# Altium schematic symbol library Otto Sch Lib.SCHLIB: 41 symbols
Pins are listed as number, name and electrical type; pins without a type are passive.

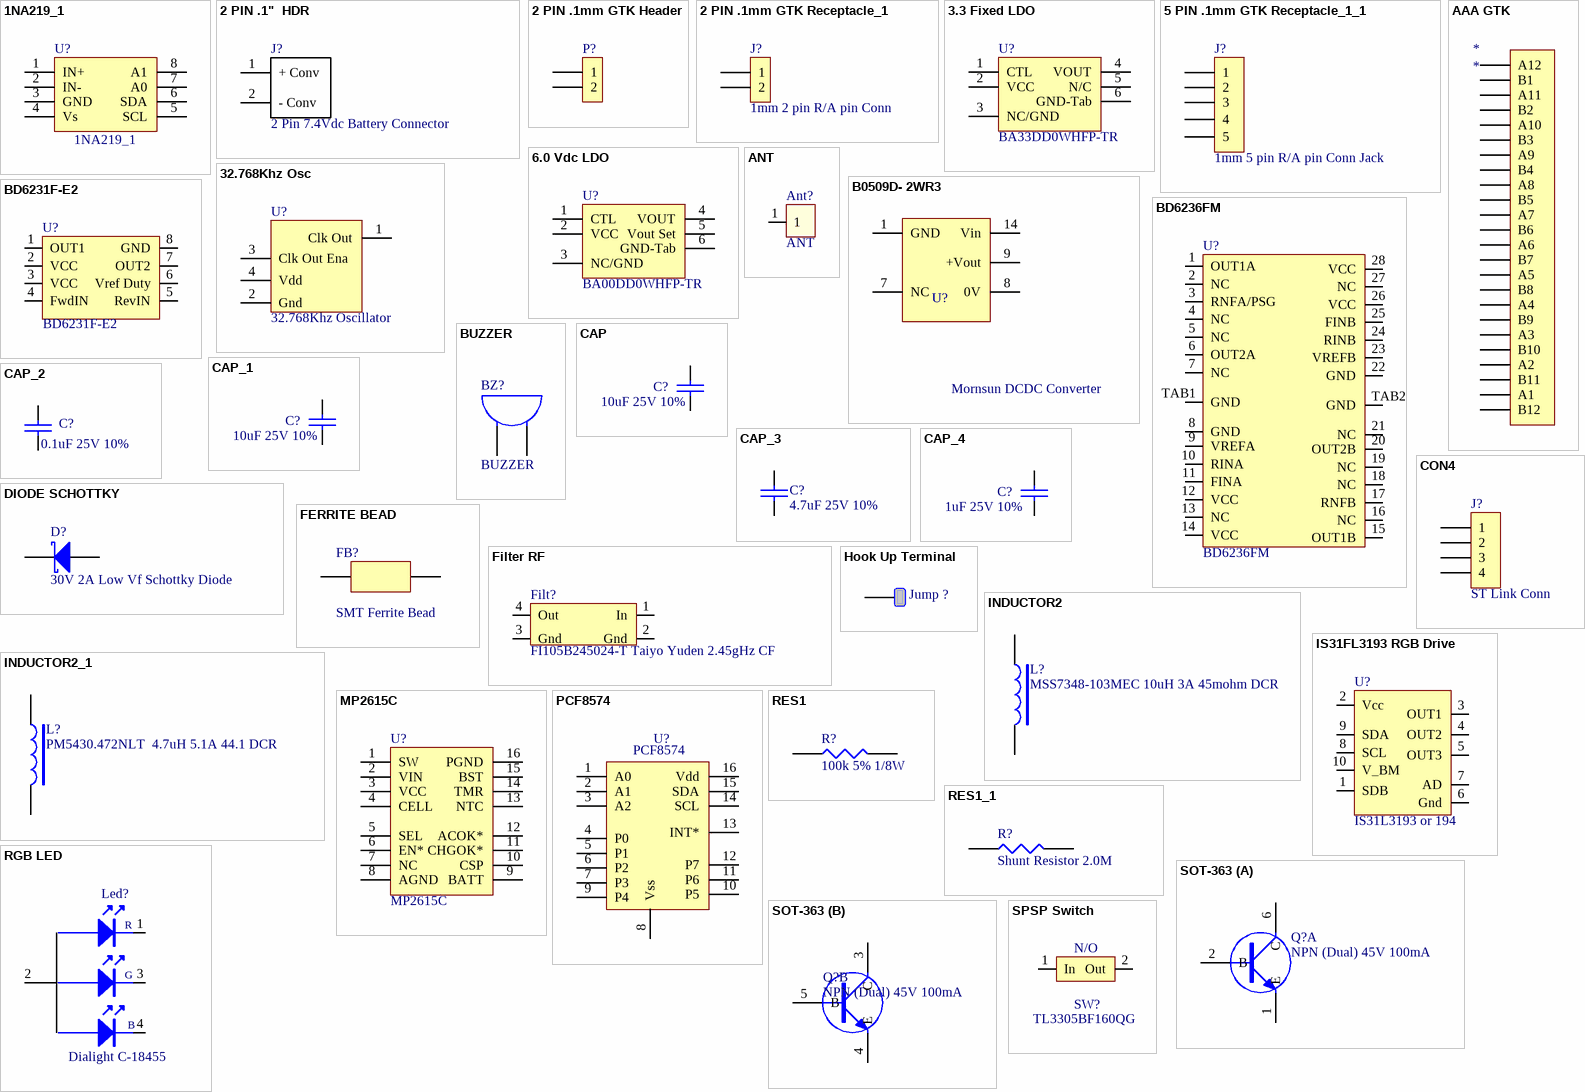
[diagram p0: symbols 1NA219_1 to SPSP Switch]

## 1NA219_1
designator U?
INA219AIDCNR Current Sensor  1.29 sd at mouser
footprint INA219
pins: 1 IN+, 2 IN-, 3 GND, 4 Vs, 5 SCL, 6 SDA, 7 A0, 8 A1

## 2 PIN .1"  HDR
designator J?, comment 2 Pin 7.4Vdc Battery Connector
640457-2  TE Connectivity 2 pin r-a battery conn 8.6cents at Mouser
footprint 0.1 inch center -- 2 pin Batt  RA (Footprint not found)
pins: 1 + Conv, 2 - Conv
2 alternate drawings of the same symbol

## 2 PIN .1mm GTK Header
designator P?, comment 1mm 2 pin R/A pin Conn  (value not drawn)
WTBI-02S-SMH1T-R  2pin R-A 1mm center GTK Header
footprint GTK 2 pin 1mm Header (Footprint not found)
pins: 1, 2

## 2 PIN .1mm GTK Receptacle_1
designator J?, comment 1mm 2 pin R/A pin Conn
WTBI-02S-CF3-R 5 pin R-A 1mm center GTK Receptacle
footprint 1mm Ceneter GTK R-A Receptacle (Footprint not found)
pins: 1, 2

## 3.3 Fixed LDO
designator U?, comment BA33DD0WHFP-TR
BA33DD0WHFP-TR 3.3Vdc LDO Rohm 2.15 usd at mouser
footprint HRP-5 (Footprint not found)
pins: 1 CTL, 2 VCC, 3 NC/GND, 4 VOUT, 5 N/C, 6 GND-Tab

## 5 PIN .1mm GTK Receptacle_1_1
designator J?, comment 1mm 5 pin R/A pin Conn Jack
WTBI-05S-CF3-R 5 pin R-A 1mm center GTK Receptacle
footprint 1mm Ceneter GTK R-A Receptacle (Footprint not found)
pins: 1, 2, 3, 4, 5

## 6.0 Vdc LDO
designator U?, comment BA00DD0WHFP-TR
BA00DD0WHFP-TR 6.0Vdc LDO Rohm  1.24 usd at mouser
footprint HRP-5 (Footprint not found)
pins: 1 CTL, 2 VCC, 3 NC/GND, 4 VOUT, 5 Vout Set, 6 GND-Tab

## 32.768Khz Osc
designator U?, comment 32.768Khz Oscillator
OM-7604-C7  - 32.768Khz Osc 1.51 from Digikey
footprint 4-SMD, No Lead (Footprint not found)
pins: 1 Clk Out, 2 Gnd, 3 Clk Out Ena, 4 Vdd

## AAA GTK
designator *
pins: A1, A2, A3, A4, A5, A6, A7, A8, A9, A10, A11, A12, B1, B2, B3, B4, B5, B6, B7, B8, B9, B10, B11, B12

## ANT
designator Ant?
W3230 Pulse Larsen BLE 2.5Ghz 2.57 at Digikey
footprint Self Adhesive (Footprint not found)
footprint Pulse Larsen - duplicate (BLE Ant)
pins: 1

## B0509D- 2WR3
designator U?, comment Mornsun DCDC Converter
B0509D- 2WR3  DC to DC Boost 5 to 9Vdc 2.80 at Digikey
footprint B0509D-2WR3 (Mornsun DC-DC Converter)
pins: 1 GND, 7 NC, 8 0V, 9 +Vout, 14 Vin

## BD6231F-E2
designator U?
BD6231F-E2 Rohm DC Brush Mtr Driver 1.52 at Mouser
footprint SOP-8
pins: 1 OUT1, 2 VCC, 3 VCC, 4 FwdIN, 5 RevIN, 6 Vref Duty, 7 OUT2, 8 GND

## BD6236FM
designator U?
BD6236FM-E2 DC Brush Mtr Driver 2 CH Rohm 4.34 at Digikey
footprint HSOP-M28 (Footprint not found)
pins: 1 OUT1A, 2 NC, 3 RNFA/PSG, 4 NC, 5 NC, 6 OUT2A, 7 NC, 8 GND, 9 VREFA, 10 RINA, 11 FINA, 12 VCC, 13 NC, 14 VCC, 15 OUT1B, 16 NC, 17 RNFB, 18 NC, 19 NC, 20 OUT2B, 21 NC, 22 GND, 23 VREFB, 24 RINB, 25 FINB, 26 VCC, 27 NC, 28 VCC, TAB1 GND, TAB2 GND

## BUZZER
designator BZ?
KLJ-5030 (Keliking) 4kHz Buzzer 71 cents from LcSc.com
footprint BUZZER-smd
pins: 1 A, 2 B

## CAP
designator C?, comment 10uF 25V 10%
CC1210KFX7R8BB106 Yageo 10uF 25V 10% 23 cents at Mouser
footprint 1210 (Footprint not found)
pins: 1, 2
2 alternate drawings of the same symbol

## CAP_1
designator C?, comment 10uF 25V 10%
CC1210KFX7R8BB106 Yageo 10uF 25V 10% 23 cents at Mouser
footprint 0805
pins: 1, 2
2 alternate drawings of the same symbol

## CAP_2
designator C?, comment 0.1uF 25V 10%
TMK105BJ104KV8F Taiyo Uden 0.1uF 25V 10% 2.3 cents at Mouser
footprint 0402 (Footprint not found)
pins: 1, 2
2 alternate drawings of the same symbol

## CAP_3
designator C?, comment 4.7uF 25V 10%
GRM188R61E475KE11D Murata 4.7uF 25V 10% 7.9 centsat Mouser
footprint 0603 (Footprint not found)
pins: 1, 2
2 alternate drawings of the same symbol

## CAP_4
designator C?, comment 1uF 25V 10%
CC0603KRX5R8BB105 1uf 25V 10% Yageo 3 cents at Mouser
footprint 0603 (Footprint not found)
footprint CAPC1608X90
pins: 1, 2
2 alternate drawings of the same symbol

## CON4
designator J?, comment ST Link Conn
Standard 0.1in center terminal strip
footprint CONN-4
pins: 1, 2, 3, 4

## DIODE SCHOTTKY
designator D?, comment 30V 2A Low Vf Schottky Diode
MBR230LSFT1G On Semi 2A 30V Diode SOD 123 23 cents at Newark
footprint SOD 123 (On Semi 2A Low VF)
pins: 1, 2
2 alternate drawings of the same symbol

## FERRITE BEAD
designator FB?, comment Max DCR 0.05ohm  3A  (value not drawn)
2508051217Z3 (Fair-Rite) 4.8 cents at Mouser; Text Field1: SMT Ferrite Bead
footprint 0805 (Footprint not found)
pins: 1, 2

## Filter RF
designator Filt?, comment FI105B245024-T Taiyo Yuden 2.45gHz CF
FI105B245024-T Taiyo Uuden RF 2.45gHz  Filter 4 pin smd 37 cents at Digikey
footprint Filter (Footprint not found)
pins: 1 In, 2 Gnd, 3 Gnd, 4 Out

## Hook Up Terminal
designator Jump ?  (value not drawn)
footprint Pad
pins: 1

## INDUCTOR2
designator L?, comment MSS7348-103MEC 10uH 3A 45mohm DCR
MSS7348-103MEC Coilcraft 10uH 3A 45mohm DCR 80cents at Mouser
footprint 7x7mm (Footprint not found)
pins: 1, 2
2 alternate drawings of the same symbol

## INDUCTOR2_1
designator L?, comment PM5430.472NLT  4.7uH 5.1A 44.1 DCR
PM5430.472NLT  4.7uH 5.1A 44.1 DCR Ohms 20% 80 Cents at Digikey
footprint 4x4mm (Footprint not found)
pins: 1, 2
2 alternate drawings of the same symbol

## IS31FL3193 RGB Drive
designator U?, comment IS31L3193 or 194
IS31FL3194-CLS2-TR RGB Driver 62 cents at Mouser also look at IS31FL3193 part
footprint WCSP-8 (Footprint not found)
pins: 1 SDB, 2 Vcc, 3 OUT1, 4 OUT2, 5 OUT3, 6 Gnd, 7 AD, 8 SCL, 9 SDA, 10 V_BM

## MP2615C
designator U?
MP2615C Batt Charger IC usd at mouser
footprint 16-PowerVFQFN (Footprint not found)
pins: 1 SW, 2 VIN, 3 VCC, 4 CELL, 5 SEL, 6 EN*, 7 NC, 8 AGND, 9 BATT, 10 CSP, 11 CHGOK*, 12 ACOK*, 13 NTC, 14 TMR, 15 BST, 16 PGND

## PCF8574
designator U?
PCF8574 I2C Expander  fix   usd at mouser
footprint SOIC-16 (Footprint not found)
pins: 1 A0, 2 A1, 3 A2, 4 P0, 5 P1, 6 P2, 7 P3, 8 Vss, 9 P4, 10 P5, 11 P6, 12 P7, 13 INT*, 14 SCL, 15 SDA, 16 Vdd

## RES1
designator R?, comment 100k 5% 1/8W
need mew pn --- 0805FR-07150RL (Yageo)
footprint 0805
pins: 1, 2
2 alternate drawings of the same symbol

## RES1_1
designator R?, comment Shunt Resistor 2.0M
PSR100KTQFJ2L00 64cents at Mouser
footprint 2512
pins: 1, 2
2 alternate drawings of the same symbol

## RGB LED
designator Led?, comment Dialight C-18455
Dialight C-18455 31cents from Mouser or 28cents at Digikey
footprint 5MM (Footprint not found)
pins: 1 R, 2, 3 G, 4 G
text: B

## SOT-363
designator Q?, comment NPN (Dual) 45V 100mA
BC847BS,115 Nexperia Dual NPN 8.9cents at Mouser
footprint SOT-23
footprint TSSOP-6 (Footprint not found)
part A pins: 1 E, 2 B, 6 C
part B pins: 3 C, 4 E, 5 B

## SPSP Switch
designator SW?, comment TL3305BF160QG
TL3305BF160QG SPST E-Switch Pushbutton Normally Open Tactile 1.5cents at Mouser
footprint Switch (Footprint not found)
pins: 1 In, 2 Out
text: N/O

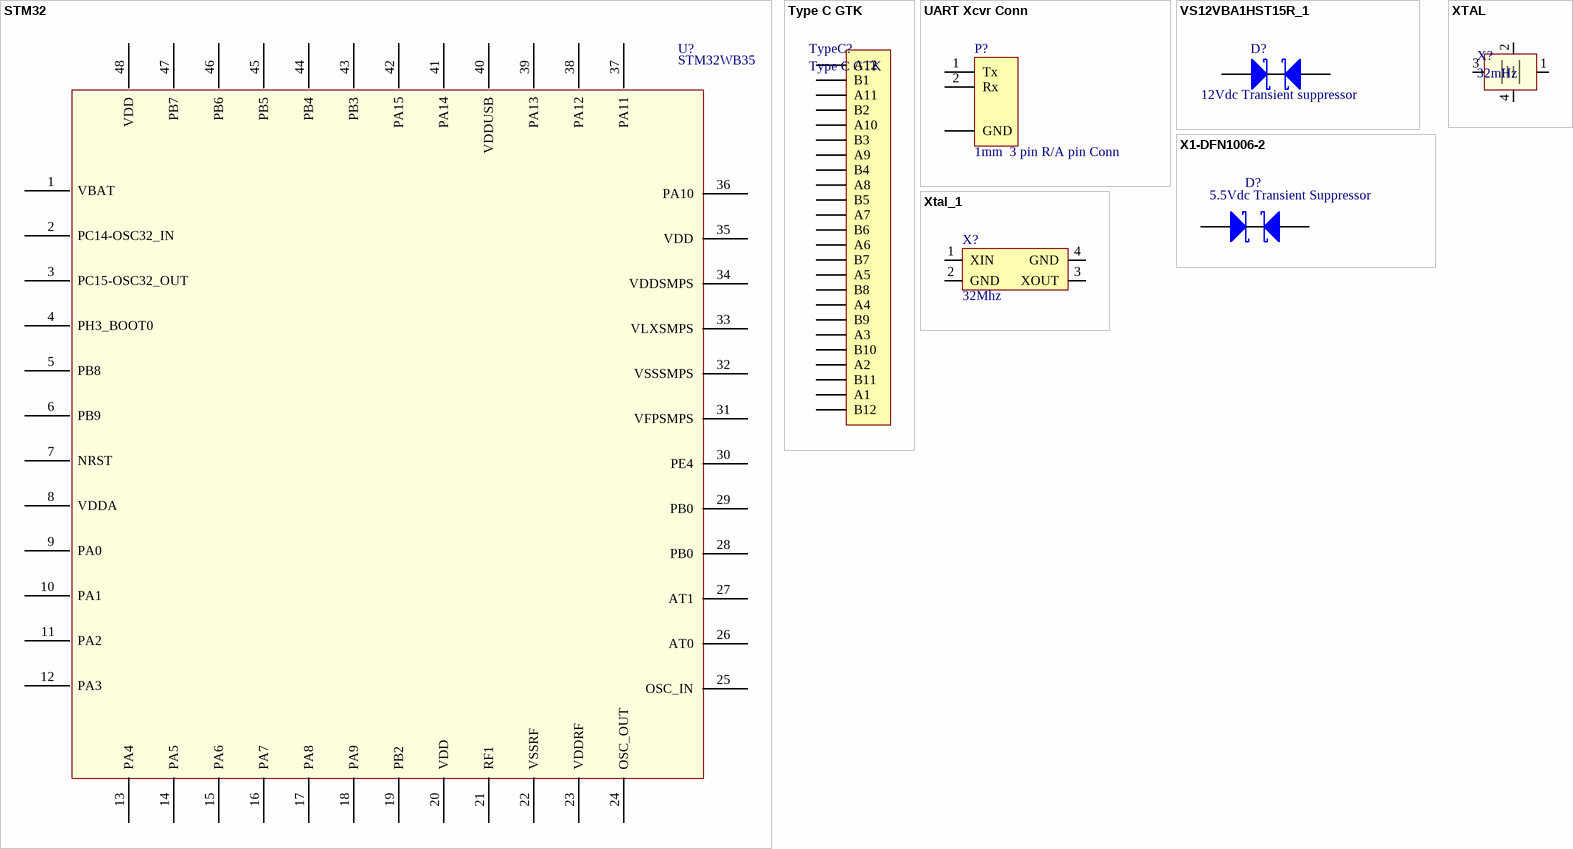
[diagram p1: symbols STM32 to Xtal_1]

## STM32
designator U?, comment STM32WB35
STM32WB35CEU6ATR
footprint 48-UFQFPN (7x7) (Footprint not found)
pins: 1 VBAT, 2 PC14-OSC32_IN, 3 PC15-OSC32_OUT, 4 PH3_BOOT0, 5 PB8, 6 PB9, 7 NRST, 8 VDDA, 9 PA0, 10 PA1, 11 PA2, 12 PA3, 13 PA4, 14 PA5, 15 PA6, 16 PA7, 17 PA8, 18 PA9, 19 PB2, 20 VDD, 21 RF1, 22 VSSRF, 23 VDDRF, 24 OSC_OUT, 25 OSC_IN, 26 AT0, 27 AT1, 28 PB0, 29 PB0, 30 PE4, 31 VFPSMPS, 32 VSSSMPS, 33 VLXSMPS, 34 VDDSMPS, 35 VDD, 36 PA10, 37 PA11, 38 PA12, 39 PA13, 40 VDDUSB, 41 PA14, 42 PA15, 43 PB3, 44 PB4, 45 PB5, 46 PB6, 47 PB7, 48 VDD

## Type C GTK
designator TypeC?
footprint C-Conn (GTK Type C Connector)
pins: A1, A2, A3, A4, A5, A6, A7, A8, A9, A10, A11, A12, B1, B2, B3, B4, B5, B6, B7, B8, B9, B10, B11, B12

## UART Xcvr Conn
designator P?, comment 1mm  3 pin R/A pin Conn
GTK 3 pin R-A 1mm center GTK Header
footprint GTK 3pin 1mm Header (Footprint not found)
pins: 1 Tx, 2 Rx, 2 GND

## VS12VBA1HST15R_1
designator D?, comment 12Vdc Transient suppressor
VS12VBA1HST15R  Rohm 12Vdc Transient Supressor 5cents at Digikey
footprint VS12BA-TVS
pins: 1, 2
2 alternate drawings of the same symbol

## X1-DFN1006-2
designator D?, comment 5.5Vdc Transient Suppressor
DF2S5.1FS,L3M Toshiba 5.5vdc Supressor 3cents at Mouser
footprint SOD-923-2 (Footprint not found)
pins: 1, 2
2 alternate drawings of the same symbol

## XTAL
designator X?, comment 32mHz
footprint 4-SMD, No Lead_1 (XT3249CA38)
pins: 1, 2, 3, 4

## Xtal_1
designator X?, comment 32Mhz
SXT3249CA38-50.000MT 32Mhz Crystal 20cents at Digikey
footprint 4-SMD, No Lead (Footprint not found)
pins: 1 XIN, 2 GND, 3 XOUT, 4 GND